# EAGLE library part SLT-50 (library slt-50)
50-pin connector side slot
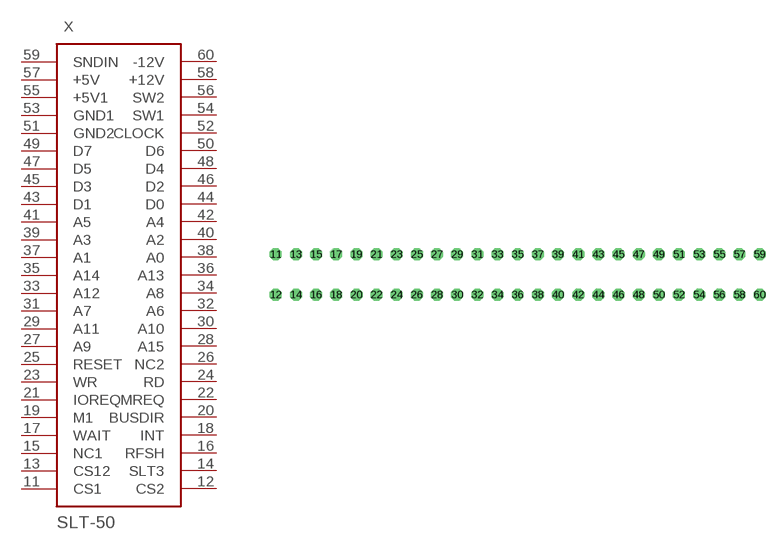
[diagram p0: symbol with the pads of SLT-50; footprint SLT-50]

Designator prefix X

## SLT-50  [SLT-50]
11  CS1
12  CS2
13  CS12
14  SLT3
15  NC1
16  RFSH
17  WAIT
18  INT
19  M1
20  BUSDIR
21  IOREQ
22  MREQ
23  WR
24  RD
25  RESET
26  NC2
27  A9
28  A15
29  A11
30  A10
31  A7
32  A6
33  A12
34  A8
35  A14
36  A13
37  A1
38  A0
39  A3
40  A2
41  A5
42  A4
43  D1
44  D0
45  D3
46  D2
47  D5
48  D4
49  D7
50  D6
51  GND2
52  CLOCK
53  GND1
54  SW1
55  +5V1
56  SW2
57  +5V
58  +12V
59  SNDIN
60  -12V

## Footprint SLT-50 (pad centres in mm)
CONNECTOR 50 pin side slot angled
drill 1 octagon: 11 -24.13,6.35; 12 -24.13,1.27; 13 -21.59,6.35; 14 -21.59,1.27; 15 -19.05,6.35; 16 -19.05,1.27; 17 -16.51,6.35; 18 -16.51,1.27; 19 -13.97,6.35; 20 -13.97,1.27; 21 -11.43,6.35; 22 -11.43,1.27; 23 -8.89,6.35; 24 -8.89,1.27; 25 -6.35,6.35; 26 -6.35,1.27; 27 -3.81,6.35; 28 -3.81,1.27; 29 -1.27,6.35; 30 -1.27,1.27; 31 1.27,6.35; 32 1.27,1.27; 33 3.81,6.35; 34 3.81,1.27; 35 6.35,6.35; 36 6.35,1.27; 37 8.89,6.35; 38 8.89,1.27; 39 11.43,6.35; 40 11.43,1.27; 41 13.97,6.35; 42 13.97,1.27; 43 16.51,6.35; 44 16.51,1.27; 45 19.05,6.35; 46 19.05,1.27; 47 21.59,6.35; 48 21.59,1.27; 49 24.13,6.35; 50 24.13,1.27; 51 26.67,6.35; 52 26.67,1.27; 53 29.21,6.35; 54 29.21,1.27; 55 31.75,6.35; 56 31.75,1.27; 57 34.29,6.35; 58 34.29,1.27; 59 36.83,6.35; 60 36.83,1.27